# Altium schematic symbol library STLQ015M33R.SchLib: 1 symbol
Pins are listed as number, name and electrical type; pins without a type are passive.

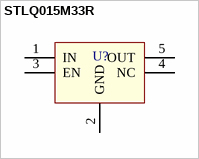
[diagram p0: symbol STLQ015M33R]

## STLQ015M33R
designator U?
Ultra low quiescent current linear voltage regulator
footprint SOT23-5L (SOT23, 5-Leads, Body 2,90x2,80mm, Pitch 0,95mm, IPC Medium Density)
pins: 1 IN, 2 GND, 3 EN, 4 NC, 5 OUT